# EAGLE library part LT3045EMSE-1TRPBF (library EW_voltage_regulators)
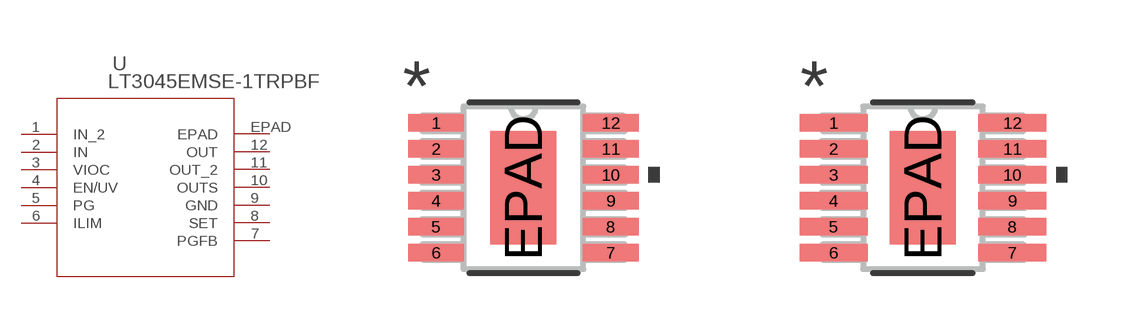
[diagram p51: symbol with the pads of MSE_12_ADI; footprints MSE_12_ADI, MSE_12_ADI-M]

Designator prefix U

## LT3045EMSE-1TRPBF (COPYRIGHT: Copyright (C) 2021 Ultra Librarian. All rights reserved.; MANUFACTURER_PART_NUMBER: LT3045EMSE-1#TRPBF; MFR_NAME: Analog Devices Inc)  [MSE_12_ADI]
1  IN_2  in
2  IN  in
3  VIOC  pas
4  EN/UV  pas
5  PG  pas
6  ILIM  pas
7  PGFB  pas
8  SET  pas
9  GND  pwr
10  OUTS  out
11  OUT_2  out
12  OUT  out
EPAD  EPAD  pas

## LT3045EMSE-1TRPBFMSE_12_ADI-M (COPYRIGHT: Copyright (C) 2021 Ultra Librarian. All rights reserved.; MANUFACTURER_PART_NUMBER: LT3045EMSE-1#TRPBF; MFR_NAME: Analog Devices Inc)  [MSE_12_ADI-M]
Pads as for MSE_12_ADI

## LT3045EMSE-1TRPBFMSE_12_ADI-L (COPYRIGHT: Copyright (C) 2021 Ultra Librarian. All rights reserved.; MANUFACTURER_PART_NUMBER: LT3045EMSE-1#TRPBF; MFR_NAME: Analog Devices Inc)  [MSE_12_ADI-L]
Pads as for MSE_12_ADI

## Footprint MSE_12_ADI (pad centres in mm)
smd 1.397 x 0.432: 1 -2.184,1.625; 2 -2.184,0.975; 3 -2.184,0.325; 4 -2.184,-0.325; 5 -2.184,-0.975; 6 -2.184,-1.625; 7 2.184,-1.625; 8 2.184,-0.975; 9 2.184,-0.325; 10 2.184,0.325; 11 2.184,0.975; 12 2.184,1.625
smd 1.651 x 2.845: EPAD 0,0

## Footprint MSE_12_ADI-M (pad centres in mm)
smd 1.702 x 0.432: 1 -2.235,1.625; 2 -2.235,0.975; 3 -2.235,0.325; 4 -2.235,-0.325; 5 -2.235,-0.975; 6 -2.235,-1.625; 7 2.235,-1.625; 8 2.235,-0.975; 9 2.235,-0.325; 10 2.235,0.325; 11 2.235,0.975; 12 2.235,1.625
smd 1.651 x 2.845: EPAD 0,0

## Footprint MSE_12_ADI-L (pad centres in mm)
smd 1.092 x 0.381: 1 -2.134,1.625; 2 -2.134,0.975; 3 -2.134,0.325; 4 -2.134,-0.325; 5 -2.134,-0.975; 6 -2.134,-1.625; 7 2.134,-1.625; 8 2.134,-0.975; 9 2.134,-0.325; 10 2.134,0.325; 11 2.134,0.975; 12 2.134,1.625
smd 1.651 x 2.845: EPAD 0,0